# EAGLE library part LM2574 (library omcPwrSupply)
LM2574 - SIMPLE SWITCHER® 0.5A Step-Down Voltage Regulator 3.3V, 5V, 12V, 15V, and adjustable output versions Adjustable version output voltage range, 1.23V to 37V (57V for HV version) ±4% max over line and load conditions Guaranteed 0.5A output current Wide input voltage range, 40V, up to 60V for HV version Requires only 4 external components 52 kHz fixed frequency internal oscillator TTL shutdown capability, low power standby mode High efficiency Uses readily available standard inductors Thermal shutdown and current limit protection Texas Instruments Datasheet <http://www.ti.com/lit/ds/symlink/lm2574.pdf> Reichelt Datasheet <http://cdn-reichelt.de/documents/datenblatt/A200/LM2574%23NSC.pdf>
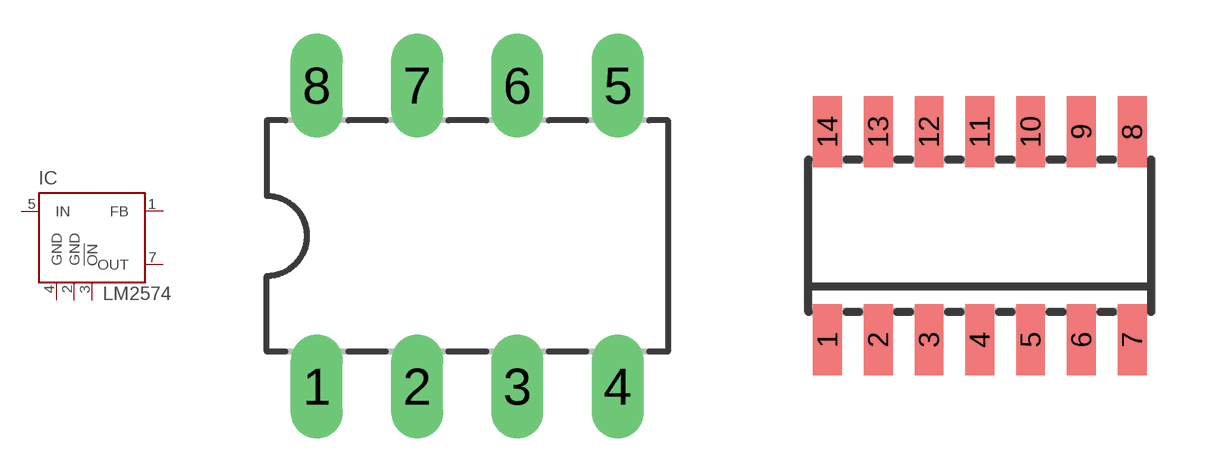
[diagram p1: symbol with the pads of DIL08; footprints DIL08, SOIC14]

Designator prefix IC

## LM2574-12N (VALUE: LM2574N-12; VENDOR#: Texas Instruments,LM2574N-12/NOPB), LM2574-3.3N (DIST#REICHELT#: LM 2574 N3,3; VALUE: LM2574N-3.3; VENDOR#: Texas Instruments,LM2574N-3.3/NOPB), LM2574-5.0N (DIST#REICHELT#: LM 2574 N5; VALUE: LM2574N-5.0; VENDOR#: Texas Instruments,LM2574N-5.0/NOPB), LM2574-ADJN (DIST#REICHELT#: LM 2574 N-ADJ; VALUE: LM2574N-ADJ; VENDOR#: Texas Instruments,LM2574N-ADJ/NOPB)  [DIL08]
1  FB  pas
2  GND  pwr
3  !ON  pas
4  GND  pwr
5  IN  pwr
7  OUT  out

## LM2574-12M (VALUE: LM2574M-12; VENDOR#: Texas_Instruments#LM2574M-12/NOPB), LM2574-3.3M (DIST#REICHELT#: LM 2574 M3,3; VALUE: LM2574M-3.3; VENDOR#: Texas_Instruments#LM2574M-3.3/NOPB), LM2574-5.0M (DIST#REICHELT#: LM 2574 M5,0; VALUE: LM2574M-5.0; VENDOR#: Texas_Instruments#LM2574M-5.0/NOPB), LM2574-ADJM (DIST#REICHELT#: LM 2574 M-ADJ; VALUE: LM2574M-ADJ; VENDOR#: Texas_Instruments#LM2574M-ADJ/NOPB)  [SOIC14]
3  FB  pas
4  GND  pwr
5  !ON  pas
6  GND  pwr
10  IN  pwr
12  OUT  out

## Footprint DIL08 (pad centres in mm)
DIL8 Dual-in-line package THT 10.16mm×7.62mm Wikipedia <https://en.wikipedia.org/wiki/Dual_in-line_package>
drill 0.813 long: 1 -3.81,-3.81; 2 -1.27,-3.81; 3 1.27,-3.81; 4 3.81,-3.81; 5 3.81,3.81; 6 1.27,3.81; 7 -1.27,3.81; 8 -3.81,3.81

## Footprint SOIC14 (pad centres in mm)
SOIC14 SMD 8.5mm×6.2mm Mechanical <http://glacier.lbl.gov/gtp/DOM/dataSheets/soic14_dim.pdf> Wikipedia <https://en.wikipedia.org/wiki/Small_Outline_Integrated_Circuit>
smd 0.72 x 1.78: 1 -4.445,-2.6; 2 -3.175,-2.6; 3 -1.905,-2.6; 4 -0.635,-2.6; 5 0.635,-2.6; 6 1.905,-2.6; 7 3.175,-2.6; 8 3.175,2.6; 9 1.905,2.6; 10 0.635,2.6; 11 -0.635,2.6; 12 -1.905,2.6; 13 -3.175,2.6; 14 -4.445,2.6